# Altium integrated library TI Power Management Battery Management.IntLib: 949 symbols (part 21 of 62)
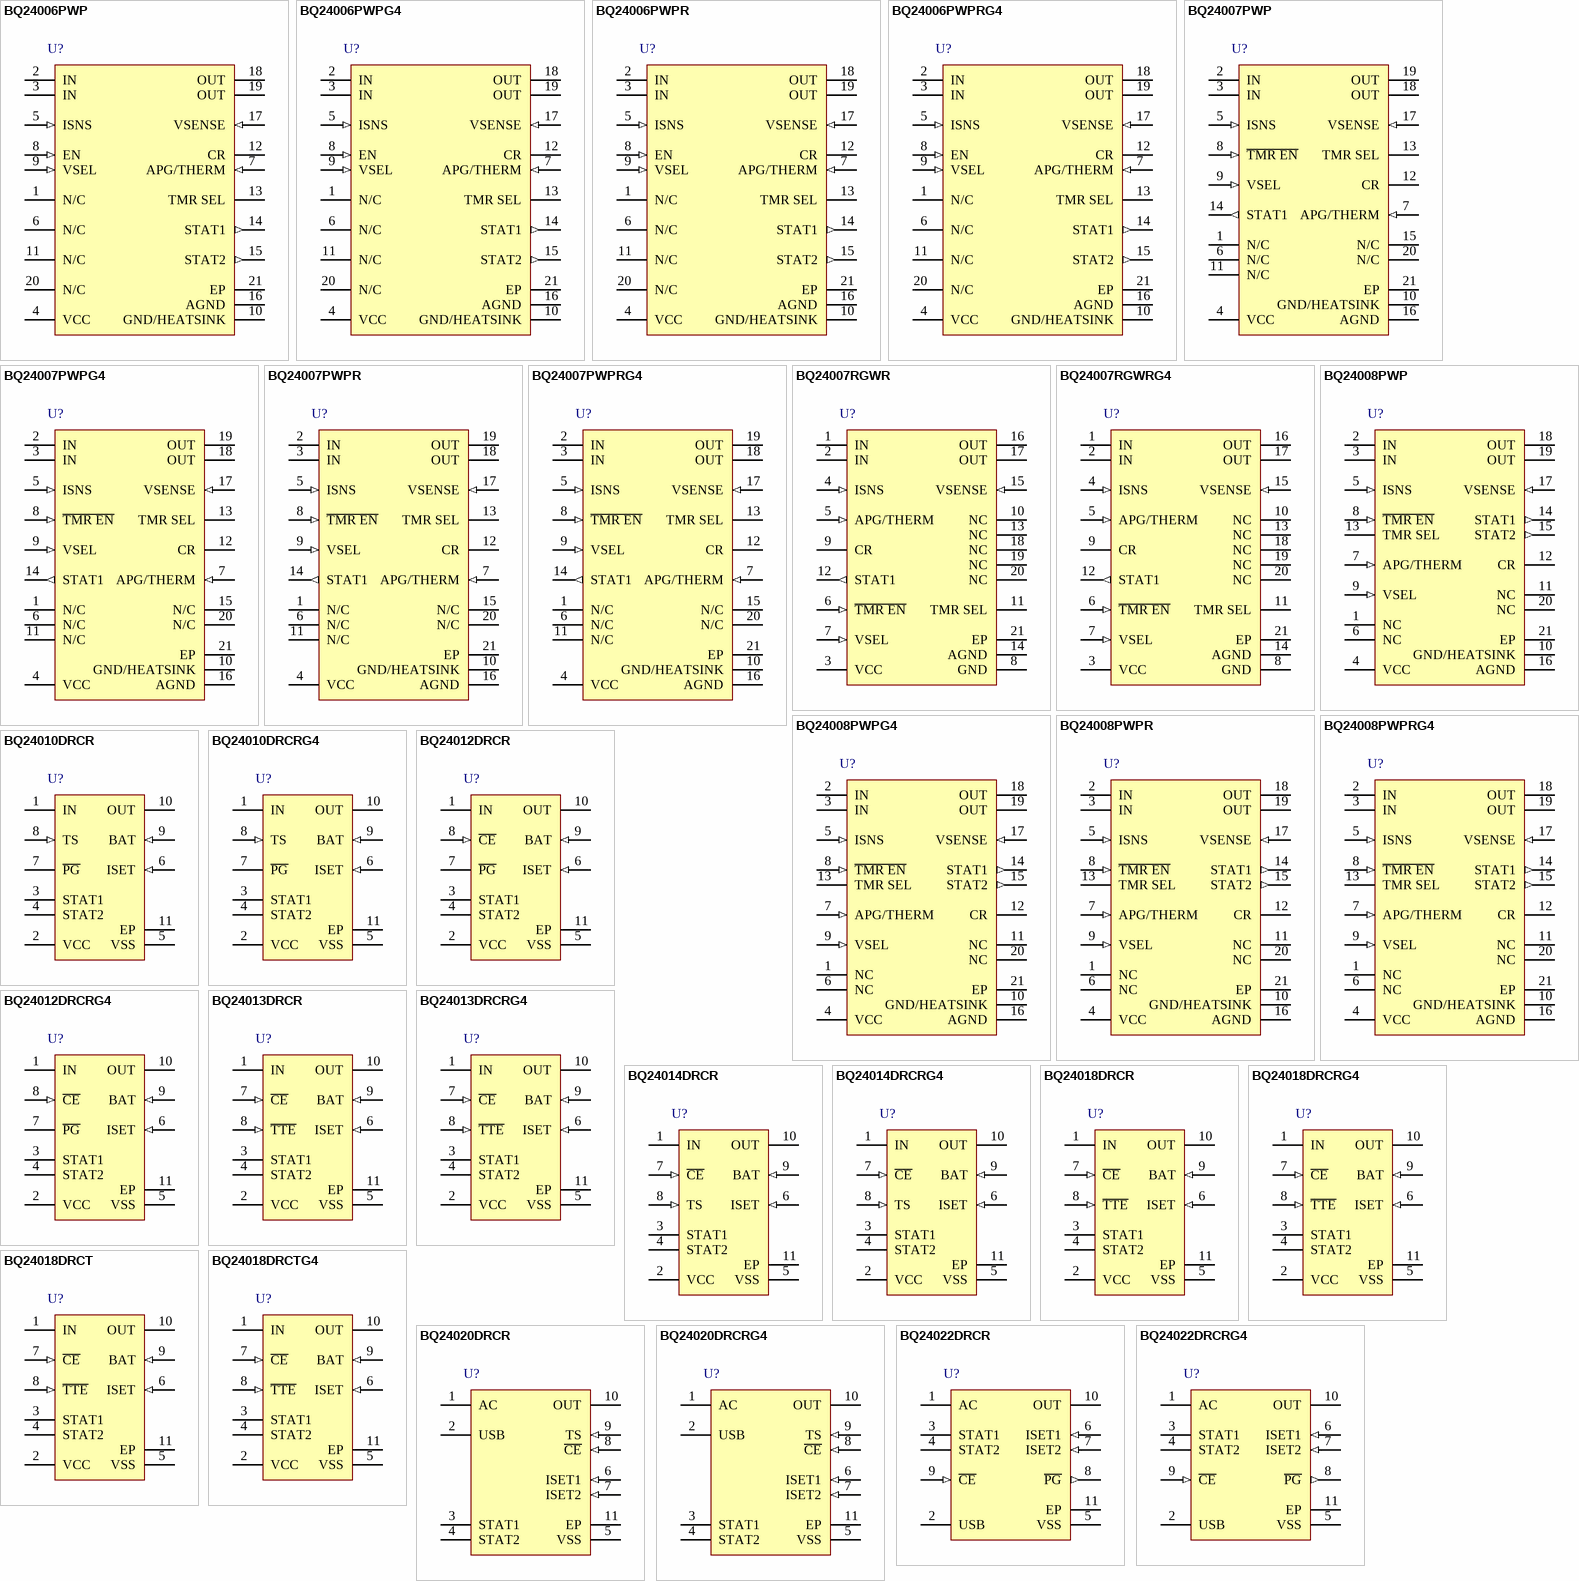
[diagram p54: symbols BQ24006PWP to BQ24022DRCRG4]

## BQ24006PWPR
designator U?
Linear 2-Cell Li-Ion Battery Charger with Integrated FET, Bi-Color LED, 4.5 V, 0 to 70 degC, 20-pin HTSSOP (PWP), Green (RoHS & no Sb/Br); PartNumber: BQ24006PWPR; Manufacturer: Texas Instruments; Lead Acid: N; Li-Ion: Y; SubFamily: Battery Charge Management; Vin(Min)(V): 4.5; DatasheetVersion: SLUS476F; PackageVersion: revI, May-2011; PackageReference: PWP20-3005X2005TP; PackageDescription: 20-Pin PowerPAD Plastic Small Outline 6.5 x 4.4 mm Body ,0.65 mm Pitch, Exposed Pad; Supplier 1: Digi-Key; Supplier Part Number 1: BQ24006PWPR-ND; Supplier 2: Newark; Supplier Part Number 2: 74C7644; Supplier 3: Mouser; Supplier Part Number 3: 595-BQ24006PWPR; Eco-Plan: Green (RoHS & no Sb/Br); Li-Polymer: Y; NiCd: N; NiMH: N; Over Voltage Protection: N; Mounting Technology: Surface Mount; Code_JEDEC: MO-153; ComponentLink1Description: Datasheet; ComponentLink1URL: http://www.ti.com/general/docs/lit/getliterature.tsp?genericPartNumber=BQ24006&fileType=pdf
footprint PWP20-3005X2005TP_N (TSOP, 20-Leads, Body 6.5x4.4mm, Pitch 0.65mm, Thermal Pad 3.7x2.4 mm, IPC Medium Density)
footprint PWP20-3005X2005TP_L (TSOP, 20-Leads, Body 6.5x4.4mm, Pitch 0.65mm, Thermal Pad 3.7x2.4 mm, IPC High Density)
footprint PWP20-3005X2005TP_M (TSOP, 20-Leads, Body 6.5x4.4mm, Pitch 0.65mm, Thermal Pad 3.7x2.4 mm, IPC Low Density)
pins: 1 N/C "No connect. These pins must be left floating.", 2 IN (power) "Input voltage. This input provides the charging voltage for the battery.", 3 IN (power) "Input voltage. This input provides the charging voltage for the battery.", 4 VCC (power) "Supply voltage", 5 ISNS (in) "Current sense input", 6 N/C "No connect. These pins must be left floating.", 7 APG/THERM (in) "Adapter power good input/thermistor sense input", 8 EN (in) "Charge-enable input. Active-high enable input with internal pull down. Low-current stand-by mode active when EN is low.", 9 VSEL (in) "8.2-V or 8.4-V charge regulation selection input", 10 GND/HEATSINK (power) "Ground pin; connect to PowerPAD heat-sink layout pattern.", 11 N/C "No connect. These pins must be left floating.", 12 CR "Internal regulator bypass capacitor", 13 TMR SEL "Charge timer selection input", 14 STAT1 (out) "Status display output 1", 15 STAT2 (out) "Status display output 2", 16 AGND (power) "Ground pin; connect close to the negative battery terminal.", 17 VSENSE (in) "Battery voltage sense input", 18 OUT (power) "Charge current output", 19 OUT (power) "Charge current output", 20 N/C "No connect. These pins must be left floating.", 21 EP "Exposed Thermal Pad"

## BQ24006PWPRG4
designator U?
Linear 2-Cell Li-Ion Battery Charger with Integrated FET, Bi-Color LED, 4.5 V, 0 to 70 degC, 20-pin HTSSOP (PWP), Green (RoHS & no Sb/Br); PartNumber: BQ24006PWPRG4; Manufacturer: Texas Instruments; Lead Acid: N; Li-Ion: Y; SubFamily: Battery Charge Management; Vin(Min)(V): 4.5; DatasheetVersion: SLUS476F; PackageVersion: revI, May-2011; PackageReference: PWP20-3005X2005TP; PackageDescription: 20-Pin PowerPAD Plastic Small Outline 6.5 x 4.4 mm Body ,0.65 mm Pitch, Exposed Pad; Supplier 1: Digi-Key; Supplier Part Number 1: BQ24006PWPRG4-ND; Supplier 2: Newark; Supplier Part Number 2: 33K4797; Supplier 3: Mouser; Supplier Part Number 3: 595-BQ24006PWPRG4; Eco-Plan: Green (RoHS & no Sb/Br); Li-Polymer: Y; NiCd: N; NiMH: N; Over Voltage Protection: N; Mounting Technology: Surface Mount; Code_JEDEC: MO-153; ComponentLink1Description: Datasheet; ComponentLink1URL: http://www.ti.com/general/docs/lit/getliterature.tsp?genericPartNumber=BQ24006&fileType=pdf
footprint PWP20-3005X2005TP_N (TSOP, 20-Leads, Body 6.5x4.4mm, Pitch 0.65mm, Thermal Pad 3.7x2.4 mm, IPC Medium Density)
footprint PWP20-3005X2005TP_L (TSOP, 20-Leads, Body 6.5x4.4mm, Pitch 0.65mm, Thermal Pad 3.7x2.4 mm, IPC High Density)
footprint PWP20-3005X2005TP_M (TSOP, 20-Leads, Body 6.5x4.4mm, Pitch 0.65mm, Thermal Pad 3.7x2.4 mm, IPC Low Density)
pins: 1 N/C "No connect. These pins must be left floating.", 2 IN (power) "Input voltage. This input provides the charging voltage for the battery.", 3 IN (power) "Input voltage. This input provides the charging voltage for the battery.", 4 VCC (power) "Supply voltage", 5 ISNS (in) "Current sense input", 6 N/C "No connect. These pins must be left floating.", 7 APG/THERM (in) "Adapter power good input/thermistor sense input", 8 EN (in) "Charge-enable input. Active-high enable input with internal pull down. Low-current stand-by mode active when EN is low.", 9 VSEL (in) "8.2-V or 8.4-V charge regulation selection input", 10 GND/HEATSINK (power) "Ground pin; connect to PowerPAD heat-sink layout pattern.", 11 N/C "No connect. These pins must be left floating.", 12 CR "Internal regulator bypass capacitor", 13 TMR SEL "Charge timer selection input", 14 STAT1 (out) "Status display output 1", 15 STAT2 (out) "Status display output 2", 16 AGND (power) "Ground pin; connect close to the negative battery terminal.", 17 VSENSE (in) "Battery voltage sense input", 18 OUT (power) "Charge current output", 19 OUT (power) "Charge current output", 20 N/C "No connect. These pins must be left floating.", 21 EP "Exposed Thermal Pad"

## BQ24007PWP
designator U?
Linear 1-Cell Li-Ion Battery Charger with Integrated FET, One LED, 4.5 V, -20 to 70 degC, 20-pin HTSSOP (PWP), Green (RoHS & no Sb/Br); PartNumber: BQ24007PWP; Manufacturer: Texas Instruments; Lead Acid: N; Li-Ion: Y; SubFamily: Battery Charge Management; Vin(Min)(V): 4.5; DatasheetVersion: SLUS479D; PackageVersion: revI, May-2011; PackageReference: PWP20-3005X2005TP; PackageDescription: 20-Pin PowerPAD Plastic Small Outline 6.5 x 4.4 mm Body ,0.65 mm Pitch, Exposed Pad; Supplier 1: Digi-Key; Supplier Part Number 1: 296-9384-5-ND; Supplier 2: Newark; Supplier Part Number 2: 74C7645; Supplier 3: Mouser; Supplier Part Number 3: 595-BQ24007PWP; Eco-Plan: Green (RoHS & no Sb/Br); Li-Polymer: Y; NiCd: N; NiMH: N; Over Voltage Protection: N; Mounting Technology: Surface Mount; Code_JEDEC: MO-153; ComponentLink1Description: Datasheet; ComponentLink1URL: http://www.ti.com/general/docs/lit/getliterature.tsp?genericPartNumber=BQ24007&fileType=pdf
footprint PWP20-3005X2005TP_N (TSOP, 20-Leads, Body 6.5x4.4mm, Pitch 0.65mm, Thermal Pad 3.7x2.4 mm, IPC Medium Density)
footprint PWP20-3005X2005TP_L (TSOP, 20-Leads, Body 6.5x4.4mm, Pitch 0.65mm, Thermal Pad 3.7x2.4 mm, IPC High Density)
footprint PWP20-3005X2005TP_M (TSOP, 20-Leads, Body 6.5x4.4mm, Pitch 0.65mm, Thermal Pad 3.7x2.4 mm, IPC Low Density)
pins: 1 N/C "No connect. These pins must be left floating. Pin 15 is N/C on bq24007PWP only", 2 IN (power) "Input voltage. This input provides the charging voltage for the battery.", 3 IN (power) "Input voltage. This input provides the charging voltage for the battery.", 4 VCC (power) "Supply voltage", 5 ISNS (in) "Current sense input", 6 N/C "No connect. These pins must be left floating. Pin 15 is N/C on bq24007PWP only", 7 APG/THERM (in) "Adapter power good input/thermistor sense input", 8 ~{TMR EN} (in) "Charge-enable  input. Active-high enable input with internal pulldown. Low-current stand-by mode active when EN is low.", 9 VSEL (in) "4.1-V or 4.2-V charge regulation selection input", 10 GND/HEATSINK (power) "Ground pin; connect to PowerPAD heat-sink layout pattern.", 11 N/C "No connect. These pins must be left floating. Pin 15 is N/C on bq24007PWP only", 12 CR "Internal regulator bypass capacitor", 13 TMR SEL "Charge timer selection input", 14 STAT1 (out) "Status display output 1", 15 N/C "No connect. These pins must be left floating. Pin 15 is N/C on bq24007PWP only", 16 AGND (power) "Ground pin; connect close to the negative battery terminal.", 17 VSENSE (in) "Battery voltage sense input", 18 OUT (power) "Charge current output", 19 OUT (power) "Charge current output", 20 N/C "No connect. These pins must be left floating. Pin 15 is N/C on bq24007PWP only", 21 EP (power) "Exposed Pad"

## BQ24007PWPG4
designator U?
Linear 1-Cell Li-Ion Battery Charger with Integrated FET, One LED, 4.5 V, -20 to 70 degC, 20-pin HTSSOP (PWP), Green (RoHS & no Sb/Br); PartNumber: BQ24007PWPG4; Manufacturer: Texas Instruments; Lead Acid: N; Li-Ion: Y; SubFamily: Battery Charge Management; Vin(Min)(V): 4.5; DatasheetVersion: SLUS479D; PackageVersion: revI, May-2011; PackageReference: PWP20-3005X2005TP; PackageDescription: 20-Pin PowerPAD Plastic Small Outline 6.5 x 4.4 mm Body ,0.65 mm Pitch, Exposed Pad; Supplier 1: Digi-Key; Supplier Part Number 1: BQ24007PWPG4-ND; Supplier 2: Newark; Supplier Part Number 2: 41M7713; Supplier 3: Mouser; Supplier Part Number 3: 595-BQ24007PWPG4; Eco-Plan: Green (RoHS & no Sb/Br); Li-Polymer: Y; NiCd: N; NiMH: N; Over Voltage Protection: N; Mounting Technology: Surface Mount; Code_JEDEC: MO-153; ComponentLink1Description: Datasheet; ComponentLink1URL: http://www.ti.com/general/docs/lit/getliterature.tsp?genericPartNumber=BQ24007&fileType=pdf
footprint PWP20-3005X2005TP_N (TSOP, 20-Leads, Body 6.5x4.4mm, Pitch 0.65mm, Thermal Pad 3.7x2.4 mm, IPC Medium Density)
footprint PWP20-3005X2005TP_L (TSOP, 20-Leads, Body 6.5x4.4mm, Pitch 0.65mm, Thermal Pad 3.7x2.4 mm, IPC High Density)
footprint PWP20-3005X2005TP_M (TSOP, 20-Leads, Body 6.5x4.4mm, Pitch 0.65mm, Thermal Pad 3.7x2.4 mm, IPC Low Density)
pins: 1 N/C "No connect. These pins must be left floating. Pin 15 is N/C on bq24007PWP only", 2 IN (power) "Input voltage. This input provides the charging voltage for the battery.", 3 IN (power) "Input voltage. This input provides the charging voltage for the battery.", 4 VCC (power) "Supply voltage", 5 ISNS (in) "Current sense input", 6 N/C "No connect. These pins must be left floating. Pin 15 is N/C on bq24007PWP only", 7 APG/THERM (in) "Adapter power good input/thermistor sense input", 8 ~{TMR EN} (in) "Charge-enable  input. Active-high enable input with internal pulldown. Low-current stand-by mode active when EN is low.", 9 VSEL (in) "4.1-V or 4.2-V charge regulation selection input", 10 GND/HEATSINK (power) "Ground pin; connect to PowerPAD heat-sink layout pattern.", 11 N/C "No connect. These pins must be left floating. Pin 15 is N/C on bq24007PWP only", 12 CR "Internal regulator bypass capacitor", 13 TMR SEL "Charge timer selection input", 14 STAT1 (out) "Status display output 1", 15 N/C "No connect. These pins must be left floating. Pin 15 is N/C on bq24007PWP only", 16 AGND (power) "Ground pin; connect close to the negative battery terminal.", 17 VSENSE (in) "Battery voltage sense input", 18 OUT (power) "Charge current output", 19 OUT (power) "Charge current output", 20 N/C "No connect. These pins must be left floating. Pin 15 is N/C on bq24007PWP only", 21 EP (power) "Exposed Pad"

## BQ24007PWPR
designator U?
Linear 1-Cell Li-Ion Battery Charger with Integrated FET, One LED, 4.5 V, -20 to 70 degC, 20-pin HTSSOP (PWP), Green (RoHS & no Sb/Br); PartNumber: BQ24007PWPR; Manufacturer: Texas Instruments; Lead Acid: N; Li-Ion: Y; SubFamily: Battery Charge Management; Vin(Min)(V): 4.5; DatasheetVersion: SLUS479D; PackageVersion: revI, May-2011; PackageReference: PWP20-3005X2005TP; PackageDescription: 20-Pin PowerPAD Plastic Small Outline 6.5 x 4.4 mm Body ,0.65 mm Pitch, Exposed Pad; Supplier 1: Digi-Key; Supplier Part Number 1: BQ24007PWPR-ND; Supplier 2: Newark; Supplier Part Number 2: 74C7646; Supplier 3: Mouser; Supplier Part Number 3: 595-BQ24007PWPR; Eco-Plan: Green (RoHS & no Sb/Br); Li-Polymer: Y; NiCd: N; NiMH: N; Over Voltage Protection: N; Mounting Technology: Surface Mount; Code_JEDEC: MO-153; ComponentLink1Description: Datasheet; ComponentLink1URL: http://www.ti.com/general/docs/lit/getliterature.tsp?genericPartNumber=BQ24007&fileType=pdf
footprint PWP20-3005X2005TP_N (TSOP, 20-Leads, Body 6.5x4.4mm, Pitch 0.65mm, Thermal Pad 3.7x2.4 mm, IPC Medium Density)
footprint PWP20-3005X2005TP_L (TSOP, 20-Leads, Body 6.5x4.4mm, Pitch 0.65mm, Thermal Pad 3.7x2.4 mm, IPC High Density)
footprint PWP20-3005X2005TP_M (TSOP, 20-Leads, Body 6.5x4.4mm, Pitch 0.65mm, Thermal Pad 3.7x2.4 mm, IPC Low Density)
pins: 1 N/C "No connect. These pins must be left floating. Pin 15 is N/C on bq24007PWP only", 2 IN (power) "Input voltage. This input provides the charging voltage for the battery.", 3 IN (power) "Input voltage. This input provides the charging voltage for the battery.", 4 VCC (power) "Supply voltage", 5 ISNS (in) "Current sense input", 6 N/C "No connect. These pins must be left floating. Pin 15 is N/C on bq24007PWP only", 7 APG/THERM (in) "Adapter power good input/thermistor sense input", 8 ~{TMR EN} (in) "Charge-enable  input. Active-high enable input with internal pulldown. Low-current stand-by mode active when EN is low.", 9 VSEL (in) "4.1-V or 4.2-V charge regulation selection input", 10 GND/HEATSINK (power) "Ground pin; connect to PowerPAD heat-sink layout pattern.", 11 N/C "No connect. These pins must be left floating. Pin 15 is N/C on bq24007PWP only", 12 CR "Internal regulator bypass capacitor", 13 TMR SEL "Charge timer selection input", 14 STAT1 (out) "Status display output 1", 15 N/C "No connect. These pins must be left floating. Pin 15 is N/C on bq24007PWP only", 16 AGND (power) "Ground pin; connect close to the negative battery terminal.", 17 VSENSE (in) "Battery voltage sense input", 18 OUT (power) "Charge current output", 19 OUT (power) "Charge current output", 20 N/C "No connect. These pins must be left floating. Pin 15 is N/C on bq24007PWP only", 21 EP (power) "Exposed Pad"

## BQ24007PWPRG4
designator U?
Linear 1-Cell Li-Ion Battery Charger with Integrated FET, One LED, 4.5 V, -20 to 70 degC, 20-pin HTSSOP (PWP), Green (RoHS & no Sb/Br); PartNumber: BQ24007PWPRG4; Manufacturer: Texas Instruments; Lead Acid: N; Li-Ion: Y; SubFamily: Battery Charge Management; Vin(Min)(V): 4.5; DatasheetVersion: SLUS479D; PackageVersion: revI, May-2011; PackageReference: PWP20-3005X2005TP; PackageDescription: 20-Pin PowerPAD Plastic Small Outline 6.5 x 4.4 mm Body ,0.65 mm Pitch, Exposed Pad; Supplier 1: Digi-Key; Supplier Part Number 1: BQ24007PWPRG4-ND; Supplier 2: Newark; Supplier Part Number 2: 21M9451; Supplier 3: Mouser; Supplier Part Number 3: 595-BQ24007PWPRG4; Eco-Plan: Green (RoHS & no Sb/Br); Li-Polymer: Y; NiCd: N; NiMH: N; Over Voltage Protection: N; Mounting Technology: Surface Mount; Code_JEDEC: MO-153; ComponentLink1Description: Datasheet; ComponentLink1URL: http://www.ti.com/general/docs/lit/getliterature.tsp?genericPartNumber=BQ24007&fileType=pdf
footprint PWP20-3005X2005TP_N (TSOP, 20-Leads, Body 6.5x4.4mm, Pitch 0.65mm, Thermal Pad 3.7x2.4 mm, IPC Medium Density)
footprint PWP20-3005X2005TP_L (TSOP, 20-Leads, Body 6.5x4.4mm, Pitch 0.65mm, Thermal Pad 3.7x2.4 mm, IPC High Density)
footprint PWP20-3005X2005TP_M (TSOP, 20-Leads, Body 6.5x4.4mm, Pitch 0.65mm, Thermal Pad 3.7x2.4 mm, IPC Low Density)
pins: 1 N/C "No connect. These pins must be left floating. Pin 15 is N/C on bq24007PWP only", 2 IN (power) "Input voltage. This input provides the charging voltage for the battery.", 3 IN (power) "Input voltage. This input provides the charging voltage for the battery.", 4 VCC (power) "Supply voltage", 5 ISNS (in) "Current sense input", 6 N/C "No connect. These pins must be left floating. Pin 15 is N/C on bq24007PWP only", 7 APG/THERM (in) "Adapter power good input/thermistor sense input", 8 ~{TMR EN} (in) "Charge-enable  input. Active-high enable input with internal pulldown. Low-current stand-by mode active when EN is low.", 9 VSEL (in) "4.1-V or 4.2-V charge regulation selection input", 10 GND/HEATSINK (power) "Ground pin; connect to PowerPAD heat-sink layout pattern.", 11 N/C "No connect. These pins must be left floating. Pin 15 is N/C on bq24007PWP only", 12 CR "Internal regulator bypass capacitor", 13 TMR SEL "Charge timer selection input", 14 STAT1 (out) "Status display output 1", 15 N/C "No connect. These pins must be left floating. Pin 15 is N/C on bq24007PWP only", 16 AGND (power) "Ground pin; connect close to the negative battery terminal.", 17 VSENSE (in) "Battery voltage sense input", 18 OUT (power) "Charge current output", 19 OUT (power) "Charge current output", 20 N/C "No connect. These pins must be left floating. Pin 15 is N/C on bq24007PWP only", 21 EP (power) "Exposed Pad"

## BQ24007RGWR
designator U?
Linear 1-Cell Li-Ion Battery Charger with Integrated FET, One LED, 4.5 V, -40 to 70 degC, 20-pin VQFN (RGW), Green (RoHS & no Sb/Br); PartNumber: BQ24007RGWR; Manufacturer: Texas Instruments; Lead Acid: N; Li-Ion: Y; SubFamily: Battery Charge Management; Vin(Min)(V): 4.5; DatasheetVersion: SLUS479D; PackageVersion: revC, Jul-2011; PackageReference: RGW20-3150X3150TP; PackageDescription: 20-Pin Plastic Quad Flat No-Lead, 5 x 5 mm Body, 0.65 mm Pitch, 3.15 x 3.15 mm Exposed Pad; Supplier 1: Digi-Key; Supplier Part Number 1: 296-12971-2-ND; Supplier 2: Digi-Key; Supplier Part Number 2: 296-12971-1-ND; Supplier 3: Digi-Key; Supplier Part Number 3: 296-12971-6-ND; Supplier 4: Newark; Supplier Part Number 4: 74C7647; Supplier 5: Mouser; Supplier Part Number 5: 595-BQ24007RGWR; Eco-Plan: Green (RoHS & no Sb/Br); Li-Polymer: Y; NiCd: N; NiMH: N; Over Voltage Protection: N; Mounting Technology: Surface Mount; Code_JEDEC: MO-220; ComponentLink1Description: Datasheet; ComponentLink1URL: http://www.ti.com/general/docs/lit/getliterature.tsp?genericPartNumber=BQ24007&fileType=pdf
footprint RGW20-3150X3150TP (QFN, 20-Leads, Body 5x5mm, Pitch 0.65mm, Thermal Pad 3.15x3.15mm, TI Recommended)
pins: 1 IN (power) "Input voltage. This input provides the charging voltage for the battery.", 2 IN (power) "Input voltage. This input provides the charging voltage for the battery.", 3 VCC (power) "Supply voltage", 4 ISNS (in) "Current sense input", 5 APG/THERM (in) "Adapter power good input/thermistor sense input", 6 ~{TMR EN} (in) "Charge-enable  input. Active-high enable input with internal pulldown. Low-current stand-by mode active when EN is low.", 7 VSEL (in) "Adapter power good input/thermistor sense input", 8 GND (power) "Ground pin; connect to PowerPAD heat-sink layout pattern.", 9 CR "Internal regulator bypass capacitor", 10 NC "No connect. These pins must be left floating.", 11 TMR SEL "Charge timer selection input", 12 STAT1 (out) "Status display output 1", 13 NC "No connect. These pins must be left floating.Pin 13 is N/C on bq24007RGW only.", 14 AGND (power) "Ground pin; connect close to the negative battery terminal.", 15 VSENSE (in) "Battery voltage sense input", 16 OUT (power) "Charge current output", 17 OUT (power) "Charge current output", 18 NC "No connect. These pins must be left floating.", 19 NC "No connect. These pins must be left floating.", 20 NC "No connect. These pins must be left floating.", 21 EP (power) "Expose pad"

## BQ24007RGWRG4
designator U?
Linear 1-Cell Li-Ion Battery Charger with Integrated FET, One LED, 4.5 V, -40 to 70 degC, 20-pin VQFN (RGW), Green (RoHS & no Sb/Br); PartNumber: BQ24007RGWRG4; Manufacturer: Texas Instruments; Lead Acid: N; Li-Ion: Y; SubFamily: Battery Charge Management; Vin(Min)(V): 4.5; DatasheetVersion: SLUS479D; PackageVersion: revC, Jul-2011; PackageReference: RGW20-3150X3150TP; PackageDescription: 20-Pin Plastic Quad Flat No-Lead, 5 x 5 mm Body, 0.65 mm Pitch, 3.15 x 3.15 mm Exposed Pad; Supplier 1: Digi-Key; Supplier Part Number 1: BQ24007RGWRG4-ND; Supplier 2: Newark; Supplier Part Number 2: 99K1807; Supplier 3: Mouser; Supplier Part Number 3: 595-BQ24007RGWRG4; Eco-Plan: Green (RoHS & no Sb/Br); Li-Polymer: Y; NiCd: N; NiMH: N; Over Voltage Protection: N; Mounting Technology: Surface Mount; Code_JEDEC: MO-220; ComponentLink1Description: Datasheet; ComponentLink1URL: http://www.ti.com/general/docs/lit/getliterature.tsp?genericPartNumber=BQ24007&fileType=pdf
footprint RGW20-3150X3150TP (QFN, 20-Leads, Body 5x5mm, Pitch 0.65mm, Thermal Pad 3.15x3.15mm, TI Recommended)
pins: 1 IN (power) "Input voltage. This input provides the charging voltage for the battery.", 2 IN (power) "Input voltage. This input provides the charging voltage for the battery.", 3 VCC (power) "Supply voltage", 4 ISNS (in) "Current sense input", 5 APG/THERM (in) "Adapter power good input/thermistor sense input", 6 ~{TMR EN} (in) "Charge-enable  input. Active-high enable input with internal pulldown. Low-current stand-by mode active when EN is low.", 7 VSEL (in) "Adapter power good input/thermistor sense input", 8 GND (power) "Ground pin; connect to PowerPAD heat-sink layout pattern.", 9 CR "Internal regulator bypass capacitor", 10 NC "No connect. These pins must be left floating.", 11 TMR SEL "Charge timer selection input", 12 STAT1 (out) "Status display output 1", 13 NC "No connect. These pins must be left floating.Pin 13 is N/C on bq24007RGW only.", 14 AGND (power) "Ground pin; connect close to the negative battery terminal.", 15 VSENSE (in) "Battery voltage sense input", 16 OUT (power) "Charge current output", 17 OUT (power) "Charge current output", 18 NC "No connect. These pins must be left floating.", 19 NC "No connect. These pins must be left floating.", 20 NC "No connect. These pins must be left floating.", 21 EP (power) "Expose pad"

## BQ24008PWP
designator U?
Linear 1-Cell Li-Ion Battery Charger with Integrated FET, Bi-Color LED, 4.5 V, -20 to 70 degC, 20-pin HTSSOP (PWP), Green (RoHS & no Sb/Br); PartNumber: BQ24008PWP; Manufacturer: Texas Instruments; Lead Acid: N; Li-Ion: Y; SubFamily: Battery Charge Management; Vin(Min)(V): 4.5; DatasheetVersion: SLUS479D; PackageVersion: revI, May-2011; PackageReference: PWP20-3005X2005TP; PackageDescription: 20-Pin PowerPAD Plastic Small Outline 6.5 x 4.4 mm Body ,0.65 mm Pitch, Exposed Pad; Supplier 1: Digi-Key; Supplier Part Number 1: 296-9385-5-ND; Supplier 2: Newark; Supplier Part Number 2: 74C7648; Supplier 3: Mouser; Supplier Part Number 3: 595-BQ24008PWP; Eco-Plan: Green (RoHS & no Sb/Br); Li-Polymer: Y; NiCd: N; NiMH: N; Over Voltage Protection: N; Mounting Technology: Surface Mount; Code_JEDEC: MO-153; ComponentLink1Description: Datasheet; ComponentLink1URL: http://www.ti.com/general/docs/lit/getliterature.tsp?genericPartNumber=BQ24008&fileType=pdf
footprint PWP20-3005X2005TP_N (TSOP, 20-Leads, Body 6.5x4.4mm, Pitch 0.65mm, Thermal Pad 3.7x2.4 mm, IPC Medium Density)
footprint PWP20-3005X2005TP_L (TSOP, 20-Leads, Body 6.5x4.4mm, Pitch 0.65mm, Thermal Pad 3.7x2.4 mm, IPC High Density)
footprint PWP20-3005X2005TP_M (TSOP, 20-Leads, Body 6.5x4.4mm, Pitch 0.65mm, Thermal Pad 3.7x2.4 mm, IPC Low Density)
pins: 1 NC "No connect. These pins must be left floating.", 2 IN (power) "Input voltage. This input provides the charging voltage for the battery.", 3 IN (power) "Input voltage. This input provides the charging voltage for the battery.", 4 VCC (power) "Supply voltage.", 5 ISNS (in) "Current sense input.", 6 NC "No connect. These pins must be left floating.", 7 APG/THERM (in) "Adapter power good input/thermistor sense input.", 8 ~{TMR EN} (in) "Charge-enable  input. Active-high enable input with internal pulldown. Low-current stand-by mode active when EN is low.", 9 VSEL (in) "4.1-V or 4.2-V charge regulation selection input", 10 GND/HEATSINK (power) "Ground pin; connect to PowerPAD heat-sink layout pattern.", 11 NC "No connect. These pins must be left floating.", 12 CR "Internal regulator bypass capacitor.", 13 TMR SEL "Charge timer selection input", 14 STAT1 (out) "Status display output 1", 15 STAT2 (out) "Status display output 2 (for bq24008 only)", 16 AGND (power) "Ground pin; connect close to the negative battery terminal.", 17 VSENSE (in) "Battery voltage sense input.", 18 OUT (power) "Charge current output", 19 OUT (power) "Charge current output", 20 NC "No connect. These pins must be left floating.", 21 EP "Exposed thermal pad"

## BQ24008PWPG4
designator U?
Linear 1-Cell Li-Ion Battery Charger with Integrated FET, Bi-Color LED, 4.5 V, -20 to 70 degC, 20-pin HTSSOP (PWP), Green (RoHS & no Sb/Br); PartNumber: BQ24008PWPG4; Manufacturer: Texas Instruments; Lead Acid: N; Li-Ion: Y; SubFamily: Battery Charge Management; Vin(Min)(V): 4.5; DatasheetVersion: SLUS479D; PackageVersion: revI, May-2011; PackageReference: PWP20-3005X2005TP; PackageDescription: 20-Pin PowerPAD Plastic Small Outline 6.5 x 4.4 mm Body ,0.65 mm Pitch, Exposed Pad; Supplier 1: Digi-Key; Supplier Part Number 1: BQ24008PWPG4-ND; Supplier 2: Newark; Supplier Part Number 2: 53K9240; Supplier 3: Mouser; Supplier Part Number 3: 595-BQ24008PWPG4; Eco-Plan: Green (RoHS & no Sb/Br); Li-Polymer: Y; NiCd: N; NiMH: N; Over Voltage Protection: N; Mounting Technology: Surface Mount; Code_JEDEC: MO-153; ComponentLink1Description: Datasheet; ComponentLink1URL: http://www.ti.com/general/docs/lit/getliterature.tsp?genericPartNumber=BQ24008&fileType=pdf
footprint PWP20-3005X2005TP_N (TSOP, 20-Leads, Body 6.5x4.4mm, Pitch 0.65mm, Thermal Pad 3.7x2.4 mm, IPC Medium Density)
footprint PWP20-3005X2005TP_L (TSOP, 20-Leads, Body 6.5x4.4mm, Pitch 0.65mm, Thermal Pad 3.7x2.4 mm, IPC High Density)
footprint PWP20-3005X2005TP_M (TSOP, 20-Leads, Body 6.5x4.4mm, Pitch 0.65mm, Thermal Pad 3.7x2.4 mm, IPC Low Density)
pins: 1 NC "No connect. These pins must be left floating.", 2 IN (power) "Input voltage. This input provides the charging voltage for the battery.", 3 IN (power) "Input voltage. This input provides the charging voltage for the battery.", 4 VCC (power) "Supply voltage.", 5 ISNS (in) "Current sense input.", 6 NC "No connect. These pins must be left floating.", 7 APG/THERM (in) "Adapter power good input/thermistor sense input.", 8 ~{TMR EN} (in) "Charge-enable  input. Active-high enable input with internal pulldown. Low-current stand-by mode active when EN is low.", 9 VSEL (in) "4.1-V or 4.2-V charge regulation selection input", 10 GND/HEATSINK (power) "Ground pin; connect to PowerPAD heat-sink layout pattern.", 11 NC "No connect. These pins must be left floating.", 12 CR "Internal regulator bypass capacitor.", 13 TMR SEL "Charge timer selection input", 14 STAT1 (out) "Status display output 1", 15 STAT2 (out) "Status display output 2 (for bq24008 only)", 16 AGND (power) "Ground pin; connect close to the negative battery terminal.", 17 VSENSE (in) "Battery voltage sense input.", 18 OUT (power) "Charge current output", 19 OUT (power) "Charge current output", 20 NC "No connect. These pins must be left floating.", 21 EP "Exposed thermal pad"

## BQ24008PWPR
designator U?
Linear 1-Cell Li-Ion Battery Charger with Integrated FET, Bi-Color LED, 4.5 V, -20 to 70 degC, 20-pin HTSSOP (PWP), Green (RoHS & no Sb/Br); PartNumber: BQ24008PWPR; Manufacturer: Texas Instruments; Lead Acid: N; Li-Ion: Y; SubFamily: Battery Charge Management; Vin(Min)(V): 4.5; DatasheetVersion: SLUS479D; PackageVersion: revI, May-2011; PackageReference: PWP20-3005X2005TP; PackageDescription: 20-Pin PowerPAD Plastic Small Outline 6.5 x 4.4 mm Body ,0.65 mm Pitch, Exposed Pad; Supplier 1: Digi-Key; Supplier Part Number 1: BQ24008PWPR-ND; Supplier 2: Newark; Supplier Part Number 2: 74C7649; Supplier 3: Mouser; Supplier Part Number 3: 595-BQ24008PWPR; Eco-Plan: Green (RoHS & no Sb/Br); Li-Polymer: Y; NiCd: N; NiMH: N; Over Voltage Protection: N; Mounting Technology: Surface Mount; Code_JEDEC: MO-153; ComponentLink1Description: Datasheet; ComponentLink1URL: http://www.ti.com/general/docs/lit/getliterature.tsp?genericPartNumber=BQ24008&fileType=pdf
footprint PWP20-3005X2005TP_N (TSOP, 20-Leads, Body 6.5x4.4mm, Pitch 0.65mm, Thermal Pad 3.7x2.4 mm, IPC Medium Density)
footprint PWP20-3005X2005TP_L (TSOP, 20-Leads, Body 6.5x4.4mm, Pitch 0.65mm, Thermal Pad 3.7x2.4 mm, IPC High Density)
footprint PWP20-3005X2005TP_M (TSOP, 20-Leads, Body 6.5x4.4mm, Pitch 0.65mm, Thermal Pad 3.7x2.4 mm, IPC Low Density)
pins: 1 NC "No connect. These pins must be left floating.", 2 IN (power) "Input voltage. This input provides the charging voltage for the battery.", 3 IN (power) "Input voltage. This input provides the charging voltage for the battery.", 4 VCC (power) "Supply voltage.", 5 ISNS (in) "Current sense input.", 6 NC "No connect. These pins must be left floating.", 7 APG/THERM (in) "Adapter power good input/thermistor sense input.", 8 ~{TMR EN} (in) "Charge-enable  input. Active-high enable input with internal pulldown. Low-current stand-by mode active when EN is low.", 9 VSEL (in) "4.1-V or 4.2-V charge regulation selection input", 10 GND/HEATSINK (power) "Ground pin; connect to PowerPAD heat-sink layout pattern.", 11 NC "No connect. These pins must be left floating.", 12 CR "Internal regulator bypass capacitor.", 13 TMR SEL "Charge timer selection input", 14 STAT1 (out) "Status display output 1", 15 STAT2 (out) "Status display output 2 (for bq24008 only)", 16 AGND (power) "Ground pin; connect close to the negative battery terminal.", 17 VSENSE (in) "Battery voltage sense input.", 18 OUT (power) "Charge current output", 19 OUT (power) "Charge current output", 20 NC "No connect. These pins must be left floating.", 21 EP "Exposed thermal pad"

## BQ24008PWPRG4
designator U?
Linear 1-Cell Li-Ion Battery Charger with Integrated FET, Bi-Color LED, 4.5 V, -20 to 70 degC, 20-pin HTSSOP (PWP), Green (RoHS & no Sb/Br); PartNumber: BQ24008PWPRG4; Manufacturer: Texas Instruments; Lead Acid: N; Li-Ion: Y; SubFamily: Battery Charge Management; Vin(Min)(V): 4.5; DatasheetVersion: SLUS479D; PackageVersion: revI, May-2011; PackageReference: PWP20-3005X2005TP; PackageDescription: 20-Pin PowerPAD Plastic Small Outline 6.5 x 4.4 mm Body ,0.65 mm Pitch, Exposed Pad; Supplier 1: Digi-Key; Supplier Part Number 1: BQ24008PWPRG4-ND; Supplier 2: Newark; Supplier Part Number 2: 33K4798; Supplier 3: Mouser; Supplier Part Number 3: 595-BQ24008PWPRG4; Eco-Plan: Green (RoHS & no Sb/Br); Li-Polymer: Y; NiCd: N; NiMH: N; Over Voltage Protection: N; Mounting Technology: Surface Mount; Code_JEDEC: MO-153; ComponentLink1Description: Datasheet; ComponentLink1URL: http://www.ti.com/general/docs/lit/getliterature.tsp?genericPartNumber=BQ24008&fileType=pdf
footprint PWP20-3005X2005TP_N (TSOP, 20-Leads, Body 6.5x4.4mm, Pitch 0.65mm, Thermal Pad 3.7x2.4 mm, IPC Medium Density)
footprint PWP20-3005X2005TP_L (TSOP, 20-Leads, Body 6.5x4.4mm, Pitch 0.65mm, Thermal Pad 3.7x2.4 mm, IPC High Density)
footprint PWP20-3005X2005TP_M (TSOP, 20-Leads, Body 6.5x4.4mm, Pitch 0.65mm, Thermal Pad 3.7x2.4 mm, IPC Low Density)
pins: 1 NC "No connect. These pins must be left floating.", 2 IN (power) "Input voltage. This input provides the charging voltage for the battery.", 3 IN (power) "Input voltage. This input provides the charging voltage for the battery.", 4 VCC (power) "Supply voltage.", 5 ISNS (in) "Current sense input.", 6 NC "No connect. These pins must be left floating.", 7 APG/THERM (in) "Adapter power good input/thermistor sense input.", 8 ~{TMR EN} (in) "Charge-enable  input. Active-high enable input with internal pulldown. Low-current stand-by mode active when EN is low.", 9 VSEL (in) "4.1-V or 4.2-V charge regulation selection input", 10 GND/HEATSINK (power) "Ground pin; connect to PowerPAD heat-sink layout pattern.", 11 NC "No connect. These pins must be left floating.", 12 CR "Internal regulator bypass capacitor.", 13 TMR SEL "Charge timer selection input", 14 STAT1 (out) "Status display output 1", 15 STAT2 (out) "Status display output 2 (for bq24008 only)", 16 AGND (power) "Ground pin; connect close to the negative battery terminal.", 17 VSENSE (in) "Battery voltage sense input.", 18 OUT (power) "Charge current output", 19 OUT (power) "Charge current output", 20 NC "No connect. These pins must be left floating.", 21 EP "Exposed thermal pad"

## BQ24010DRCR
designator U?
bqTINY (TM) Linear 1-Cell Li-Ion Charger with 1 A FET, AC Present and Temp Sense in QFN-10, 3 V, -40 to 85 degC, 10-pin SON (DRC), Green (RoHS & no Sb/Br); PartNumber: BQ24010DRCR; Manufacturer: Texas Instruments; Lead Acid: N; Li-Ion: Y; SubFamily: Battery Charge Management; Vin(Min)(V): 3; DatasheetVersion: SLUS530J; PackageVersion: revL, Sep-2011; PackageReference: DRC10-2400X1650TP; PackageDescription: 10-Pin Plastic Small Outline No-Lead, 3 x 3 x 1 mm Body, 0.5 mm Pitch, Exposed Pad; Supplier 1: Digi-Key; Supplier Part Number 1: 296-13714-2-ND; Supplier 2: Digi-Key; Supplier Part Number 2: 296-13714-1-ND; Supplier 3: Digi-Key; Supplier Part Number 3: 296-13714-6-ND; Supplier 4: Newark; Supplier Part Number 4: 02E2639; Supplier 5: Mouser; Supplier Part Number 5: 595-BQ24010DRCR; Eco-Plan: Green (RoHS & no Sb/Br); Li-Polymer: Y; NiCd: N; NiMH: N; Over Voltage Protection: N; Mounting Technology: Surface Mount; ComponentLink1Description: Datasheet; ComponentLink1URL: http://www.ti.com/general/docs/lit/getliterature.tsp?genericPartNumber=BQ24010&fileType=pdf
footprint DRC10-2400X1650TP (SON, 10-Leads, Body 3x3mm, Pitch 0.5mm, Thermal Pad 2.4x1.65mm, TI Recommended)
pins: 1 IN (power) "Charge input voltage. This input must be tied to the VCC pin.", 2 VCC (power) "VCC supply input", 3 STAT1 (oc) "Charge status output 1 (open collector)", 4 STAT2 (oc) "Charge status output 2 (open collector)", 5 VSS (power) "Ground input", 6 ISET (in) "Charge current set point", 7 ~{PG} (oc) "Power good status output (open collector)", 8 TS (in) "Temperature sense input", 9 BAT (in) "Battery voltage sense input", 10 OUT (power) "Charge current output", 11 EP (power) "There is an internal electrical connection between the exposed thermal pad and VSS pin of the device. The exposed thermal pad must be connected to the same potential as the Vss pin on the printed circuit board. Do not use (See Datasheet)"

## BQ24010DRCRG4
designator U?
bqTINY (TM) Linear 1-Cell Li-Ion Charger with 1 A FET, AC Present and Temp Sense in QFN-10, 3 V, -40 to 85 degC, 10-pin SON (DRC), Green (RoHS & no Sb/Br); PartNumber: BQ24010DRCRG4; Manufacturer: Texas Instruments; Lead Acid: N; Li-Ion: Y; SubFamily: Battery Charge Management; Vin(Min)(V): 3; DatasheetVersion: SLUS530J; PackageVersion: revL, Sep-2011; PackageReference: DRC10-2400X1650TP; PackageDescription: 10-Pin Plastic Small Outline No-Lead, 3 x 3 x 1 mm Body, 0.5 mm Pitch, Exposed Pad; Supplier 1: Digi-Key; Supplier Part Number 1: BQ24010DRCRG4-ND; Supplier 2: Farnell; Supplier Part Number 2: 1206835RL; Supplier 3: Farnell; Supplier Part Number 3: 1206835; Supplier 4: Newark; Supplier Part Number 4: 96K7078; Supplier 5: Newark; Supplier Part Number 5: 71J3424; Supplier 6: Mouser; Supplier Part Number 6: 595-BQ24010DRCRG4; Eco-Plan: Green (RoHS & no Sb/Br); Li-Polymer: Y; NiCd: N; NiMH: N; Over Voltage Protection: N; Mounting Technology: Surface Mount; ComponentLink1Description: Datasheet; ComponentLink1URL: http://www.ti.com/general/docs/lit/getliterature.tsp?genericPartNumber=BQ24010&fileType=pdf
footprint DRC10-2400X1650TP (SON, 10-Leads, Body 3x3mm, Pitch 0.5mm, Thermal Pad 2.4x1.65mm, TI Recommended)
pins: 1 IN (power) "Charge input voltage. This input must be tied to the VCC pin.", 2 VCC (power) "VCC supply input", 3 STAT1 (oc) "Charge status output 1 (open collector)", 4 STAT2 (oc) "Charge status output 2 (open collector)", 5 VSS (power) "Ground input", 6 ISET (in) "Charge current set point", 7 ~{PG} (oc) "Power good status output (open collector)", 8 TS (in) "Temperature sense input", 9 BAT (in) "Battery voltage sense input", 10 OUT (power) "Charge current output", 11 EP (power) "There is an internal electrical connection between the exposed thermal pad and VSS pin of the device. The exposed thermal pad must be connected to the same potential as the Vss pin on the printed circuit board. Do not use (See Datasheet)"

## BQ24012DRCR
designator U?
bqTINY (TM) Linear 1-Cell Li-Ion Charger with 1 A FET, AC Present & Charge Enable in QFN-10, 3 V, -40 to 85 degC, 10-pin SON (DRC), Green (RoHS & no Sb/Br); PartNumber: BQ24012DRCR; Manufacturer: Texas Instruments; Lead Acid: N; Li-Ion: Y; SubFamily: Battery Charge Management; Vin(Min)(V): 3; DatasheetVersion: SLUS530J; PackageVersion: revL, Sep-2011; PackageReference: DRC10-2400X1650TP; PackageDescription: 10-Pin Plastic Small Outline No-Lead, 3 x 3 x 1 mm Body, 0.5 mm Pitch, Exposed Pad; Supplier 1: Digi-Key; Supplier Part Number 1: 296-13715-2-ND; Supplier 2: Digi-Key; Supplier Part Number 2: 296-13715-1-ND; Supplier 3: Digi-Key; Supplier Part Number 3: 296-13715-6-ND; Supplier 4: Newark; Supplier Part Number 4: 02E2641; Supplier 5: Mouser; Supplier Part Number 5: 595-BQ24012DRCR; Eco-Plan: Green (RoHS & no Sb/Br); Li-Polymer: Y; NiCd: N; NiMH: N; Over Voltage Protection: N; Mounting Technology: Surface Mount; ComponentLink1Description: Datasheet; ComponentLink1URL: http://www.ti.com/general/docs/lit/getliterature.tsp?genericPartNumber=BQ24012&fileType=pdf
footprint DRC10-2400X1650TP (SON, 10-Leads, Body 3x3mm, Pitch 0.5mm, Thermal Pad 2.4x1.65mm, TI Recommended)
pins: 1 IN (power) "Charge input voltage. This input must be tied to the VCC pin.", 2 VCC (power) "VCC supply input", 3 STAT1 (oc) "Charge status output 1 (open collector)", 4 STAT2 (oc) "Charge status output 2 (open collector)", 5 VSS (power) "Ground input", 6 ISET (in) "Charge current set point", 7 ~{PG} (hiz) "Power good status output (open collector)", 8 ~{CE} (in) "Charge enable input (active low)", 9 BAT (in) "Battery voltage sense input", 10 OUT (power) "Charge current output", 11 EP (power) "There is an internal electrical connection between the exposed thermal pad and VSS pin of the device. The exposed thermal pad must be connected to the same potential as the Vss pin on the printed circuit board. Do not use (See Datasheet)"

## BQ24012DRCRG4
designator U?
bqTINY (TM) Linear 1-Cell Li-Ion Charger with 1 A FET, AC Present & Charge Enable in QFN-10, 3 V, -40 to 85 degC, 10-pin SON (DRC), Green (RoHS & no Sb/Br); PartNumber: BQ24012DRCRG4; Manufacturer: Texas Instruments; Lead Acid: N; Li-Ion: Y; SubFamily: Battery Charge Management; Vin(Min)(V): 3; DatasheetVersion: SLUS530J; PackageVersion: revL, Sep-2011; PackageReference: DRC10-2400X1650TP; PackageDescription: 10-Pin Plastic Small Outline No-Lead, 3 x 3 x 1 mm Body, 0.5 mm Pitch, Exposed Pad; Supplier 1: Digi-Key; Supplier Part Number 1: BQ24012DRCRG4-ND; Supplier 2: Newark; Supplier Part Number 2: 24K4382; Supplier 3: Mouser; Supplier Part Number 3: 595-BQ24012DRCRG4; Eco-Plan: Green (RoHS & no Sb/Br); Li-Polymer: Y; NiCd: N; NiMH: N; Over Voltage Protection: N; Mounting Technology: Surface Mount; ComponentLink1Description: Datasheet; ComponentLink1URL: http://www.ti.com/general/docs/lit/getliterature.tsp?genericPartNumber=BQ24012&fileType=pdf
footprint DRC10-2400X1650TP (SON, 10-Leads, Body 3x3mm, Pitch 0.5mm, Thermal Pad 2.4x1.65mm, TI Recommended)
pins: 1 IN (power) "Charge input voltage. This input must be tied to the VCC pin.", 2 VCC (power) "VCC supply input", 3 STAT1 (oc) "Charge status output 1 (open collector)", 4 STAT2 (oc) "Charge status output 2 (open collector)", 5 VSS (power) "Ground input", 6 ISET (in) "Charge current set point", 7 ~{PG} (hiz) "Power good status output (open collector)", 8 ~{CE} (in) "Charge enable input (active low)", 9 BAT (in) "Battery voltage sense input", 10 OUT (power) "Charge current output", 11 EP (power) "There is an internal electrical connection between the exposed thermal pad and VSS pin of the device. The exposed thermal pad must be connected to the same potential as the Vss pin on the printed circuit board. Do not use (See Datasheet)"

## BQ24013DRCR
designator U?
bqTINY (TM) Linear 1-Cell Li-Ion Charger with 1 A FET, Charge Enable & Term Enable in QFN-10, 3 V, -40 to 85 degC, 10-pin SON (DRC), Green (RoHS & no Sb/Br); PartNumber: BQ24013DRCR; Manufacturer: Texas Instruments; Lead Acid: N; Li-Ion: Y; SubFamily: Battery Charge Management; Vin(Min)(V): 3; DatasheetVersion: SLUS530J; PackageVersion: revL, Sep-2011; PackageReference: DRC10-2400X1650TP; PackageDescription: 10-Pin Plastic Small Outline No-Lead, 3 x 3 x 1 mm Body, 0.5 mm Pitch, Exposed Pad; Supplier 1: Digi-Key; Supplier Part Number 1: 296-13716-2-ND; Supplier 2: Digi-Key; Supplier Part Number 2: 296-13716-1-ND; Supplier 3: Digi-Key; Supplier Part Number 3: 296-13716-6-ND; Supplier 4: Newark; Supplier Part Number 4: 02E2643; Supplier 5: Mouser; Supplier Part Number 5: 595-BQ24013DRCR; Eco-Plan: Green (RoHS & no Sb/Br); Li-Polymer: Y; NiCd: N; NiMH: N; Over Voltage Protection: N; Mounting Technology: Surface Mount; ComponentLink1Description: Datasheet; ComponentLink1URL: http://www.ti.com/general/docs/lit/getliterature.tsp?genericPartNumber=BQ24013&fileType=pdf
footprint DRC10-2400X1650TP (SON, 10-Leads, Body 3x3mm, Pitch 0.5mm, Thermal Pad 2.4x1.65mm, TI Recommended)
pins: 1 IN (power) "Charge input voltage. This input must be tied to the VCC pin.", 2 VCC (power) "VCC supply input", 3 STAT1 (oc) "Charge status output 1 (open collector)", 4 STAT2 (oc) "Charge status output 2 (open collector)", 5 VSS (power) "Ground input", 6 ISET (in) "Charge current set point", 7 ~{CE} (in) "Charge enable input (active low)", 8 ~{TTE} (in) "Timer and termination enable input (active low)", 9 BAT (in) "Battery voltage sense input", 10 OUT (power) "Charge current output", 11 EP (power) "There is an internal electrical connection between the exposed thermal pad and VSS pin of the device. The exposed thermal pad must be connected to the same potential as the Vss pin on the printed circuit board. Do not use (See Datasheet)"

## BQ24013DRCRG4
designator U?
bqTINY (TM) Linear 1-Cell Li-Ion Charger with 1 A FET, Charge Enable & Term Enable in QFN-10, 3 V, -40 to 85 degC, 10-pin SON (DRC), Green (RoHS & no Sb/Br); PartNumber: BQ24013DRCRG4; Manufacturer: Texas Instruments; Lead Acid: N; Li-Ion: Y; SubFamily: Battery Charge Management; Vin(Min)(V): 3; DatasheetVersion: SLUS530J; PackageVersion: revL, Sep-2011; PackageReference: DRC10-2400X1650TP; PackageDescription: 10-Pin Plastic Small Outline No-Lead, 3 x 3 x 1 mm Body, 0.5 mm Pitch, Exposed Pad; Supplier 1: Digi-Key; Supplier Part Number 1: BQ24013DRCRG4-ND; Supplier 2: Newark; Supplier Part Number 2: 24K4383; Supplier 3: Mouser; Supplier Part Number 3: 595-BQ24013DRCRG4; Eco-Plan: Green (RoHS & no Sb/Br); Li-Polymer: Y; NiCd: N; NiMH: N; Over Voltage Protection: N; Mounting Technology: Surface Mount; ComponentLink1Description: Datasheet; ComponentLink1URL: http://www.ti.com/general/docs/lit/getliterature.tsp?genericPartNumber=BQ24013&fileType=pdf
footprint DRC10-2400X1650TP (SON, 10-Leads, Body 3x3mm, Pitch 0.5mm, Thermal Pad 2.4x1.65mm, TI Recommended)
pins: 1 IN (power) "Charge input voltage. This input must be tied to the VCC pin.", 2 VCC (power) "VCC supply input", 3 STAT1 (oc) "Charge status output 1 (open collector)", 4 STAT2 (oc) "Charge status output 2 (open collector)", 5 VSS (power) "Ground input", 6 ISET (in) "Charge current set point", 7 ~{CE} (in) "Charge enable input (active low)", 8 ~{TTE} (in) "Timer and termination enable input (active low)", 9 BAT (in) "Battery voltage sense input", 10 OUT (power) "Charge current output", 11 EP (power) "There is an internal electrical connection between the exposed thermal pad and VSS pin of the device. The exposed thermal pad must be connected to the same potential as the Vss pin on the printed circuit board. Do not use (See Datasheet)"

## BQ24014DRCR
designator U?
bqTINY(TM) Linear 1-Cell Li-Ion Charger with 1 A FET, Temp Sense & Charge Enable in QFN-10, 3 V, -40 to 85 degC, 10-pin SON (DRC), Green (RoHS & no Sb/Br); PartNumber: BQ24014DRCR; Manufacturer: Texas Instruments; Lead Acid: N; Li-Ion: Y; SubFamily: Battery Charge Management; Vin(Min)(V): 3; DatasheetVersion: SLUS530J; PackageVersion: revL, Sep-2011; PackageReference: DRC10-2400X1650TP; PackageDescription: 10-Pin Plastic Small Outline No-Lead, 3 x 3 x 1 mm Body, 0.5 mm Pitch, Exposed Pad; Supplier 1: Digi-Key; Supplier Part Number 1: 296-18392-2-ND; Supplier 2: Digi-Key; Supplier Part Number 2: 296-18392-1-ND; Supplier 3: Digi-Key; Supplier Part Number 3: 296-18392-6-ND; Supplier 4: Newark; Supplier Part Number 4: 73H4154; Supplier 5: Mouser; Supplier Part Number 5: 595-BQ24014DRCR; Eco-Plan: Green (RoHS & no Sb/Br); Li-Polymer: Y; NiCd: N; NiMH: N; Over Voltage Protection: N; Mounting Technology: Surface Mount; ComponentLink1Description: Datasheet; ComponentLink1URL: http://www.ti.com/general/docs/lit/getliterature.tsp?genericPartNumber=BQ24014&fileType=pdf
footprint DRC10-2400X1650TP (SON, 10-Leads, Body 3x3mm, Pitch 0.5mm, Thermal Pad 2.4x1.65mm, TI Recommended)
pins: 1 IN (power) "Charge input voltage. This input must be tied to the VCC pin.", 2 VCC (power) "VCC supply input", 3 STAT1 (oc) "Charge status output 1 (open collector)", 4 STAT2 (oc) "Charge status output 2 (open collector)", 5 VSS (power) "Ground input", 6 ISET (in) "Charge current set point", 7 ~{CE} (in) "Charge enable input (active low)", 8 TS (in) "Temperature sense input", 9 BAT (in) "Battery voltage sense input", 10 OUT (power) "Charge current output", 11 EP (power) "There is an internal electrical connection between the exposed thermal pad and VSS pin of the device. The exposed thermal pad must be connected to the same potential as the Vss pin on the printed circuit board. Do not use (See Datasheet)"

## BQ24014DRCRG4
designator U?
bqTINY(TM) Linear 1-Cell Li-Ion Charger with 1 A FET, Temp Sense & Charge Enable in QFN-10, 3 V, -40 to 85 degC, 10-pin SON (DRC), Green (RoHS & no Sb/Br); PartNumber: BQ24014DRCRG4; Manufacturer: Texas Instruments; Lead Acid: N; Li-Ion: Y; SubFamily: Battery Charge Management; Vin(Min)(V): 3; DatasheetVersion: SLUS530J; PackageVersion: revL, Sep-2011; PackageReference: DRC10-2400X1650TP; PackageDescription: 10-Pin Plastic Small Outline No-Lead, 3 x 3 x 1 mm Body, 0.5 mm Pitch, Exposed Pad; Supplier 1: Digi-Key; Supplier Part Number 1: BQ24014DRCRG4-ND; Supplier 2: Newark; Supplier Part Number 2: 24K4384; Supplier 3: Mouser; Supplier Part Number 3: 595-BQ24014DRCRG4; Eco-Plan: Green (RoHS & no Sb/Br); Li-Polymer: Y; NiCd: N; NiMH: N; Over Voltage Protection: N; Mounting Technology: Surface Mount; ComponentLink1Description: Datasheet; ComponentLink1URL: http://www.ti.com/general/docs/lit/getliterature.tsp?genericPartNumber=BQ24014&fileType=pdf
footprint DRC10-2400X1650TP (SON, 10-Leads, Body 3x3mm, Pitch 0.5mm, Thermal Pad 2.4x1.65mm, TI Recommended)
pins: 1 IN (power) "Charge input voltage. This input must be tied to the VCC pin.", 2 VCC (power) "VCC supply input", 3 STAT1 (oc) "Charge status output 1 (open collector)", 4 STAT2 (oc) "Charge status output 2 (open collector)", 5 VSS (power) "Ground input", 6 ISET (in) "Charge current set point", 7 ~{CE} (in) "Charge enable input (active low)", 8 TS (in) "Temperature sense input", 9 BAT (in) "Battery voltage sense input", 10 OUT (power) "Charge current output", 11 EP (power) "There is an internal electrical connection between the exposed thermal pad and VSS pin of the device. The exposed thermal pad must be connected to the same potential as the Vss pin on the printed circuit board. Do not use (See Datasheet)"

## BQ24018DRCR
designator U?
Single Chip Li-Ion Charge Management IC for Handheld Applications (bqTINY), 3 V, -40 to 125 degC, 10-pin SON (DRC), Green (RoHS & no Sb/Br); PartNumber: BQ24018DRCR; Manufacturer: Texas Instruments; Lead Acid: N; Li-Ion: Y; SubFamily: Battery Charge Management; Vin(Min)(V): 3; DatasheetVersion: SLUS530J; PackageVersion: revL, Sep-2011; PackageReference: DRC10-2400X1650TP; PackageDescription: 10-Pin Plastic Small Outline No-Lead, 3 x 3 x 1 mm Body, 0.5 mm Pitch, Exposed Pad; Supplier 1: Digi-Key; Supplier Part Number 1: 296-22086-2-ND; Supplier 2: Digi-Key; Supplier Part Number 2: 296-22086-1-ND; Supplier 3: Digi-Key; Supplier Part Number 3: 296-22086-6-ND; Supplier 4: Newark; Supplier Part Number 4: 50M9888; Supplier 5: Mouser; Supplier Part Number 5: 595-BQ24018DRCR; Eco-Plan: Green (RoHS & no Sb/Br); Li-Polymer: Y; NiCd: N; NiMH: N; Over Voltage Protection: N; Mounting Technology: Surface Mount; ComponentLink1Description: Datasheet; ComponentLink1URL: http://www.ti.com/general/docs/lit/getliterature.tsp?genericPartNumber=BQ24018&fileType=pdf
footprint DRC10-2400X1650TP (SON, 10-Leads, Body 3x3mm, Pitch 0.5mm, Thermal Pad 2.4x1.65mm, TI Recommended)
pins: 1 IN (power) "Charge input voltage. This input must be tied to the VCC pin.", 2 VCC (power) "VCC supply input", 3 STAT1 (oc) "Charge status output 1 (open collector)", 4 STAT2 (oc) "Charge status output 2 (open collector)", 5 VSS (power) "Ground input", 6 ISET (in) "Charge current set point", 7 ~{CE} (in) "Charge enable input (active low)", 8 ~{TTE} (in) "Timer and termination enable input (active low)", 9 BAT (in) "Battery voltage sense input", 10 OUT (power) "Charge current output", 11 EP (power) "There is an internal electrical connection between the exposed thermal pad and VSS pin of the device. The exposed thermal pad must be connected to the same potential as the Vss pin on the printed circuit board. Do not use (See Datasheet)"